# Altium footprint library W25N04KVZEIR.PcbLib: 3 footprints
Each footprint in its own frame and in the unit in brackets; x right, y up, seen from the top. Pads: shape width x height; smd on the part's side, far side on the other; paste and mask are expansions set on the pad; w line width, h text height; cw(c..) or ccw(c..) is an arc to the next point about the centre after c.
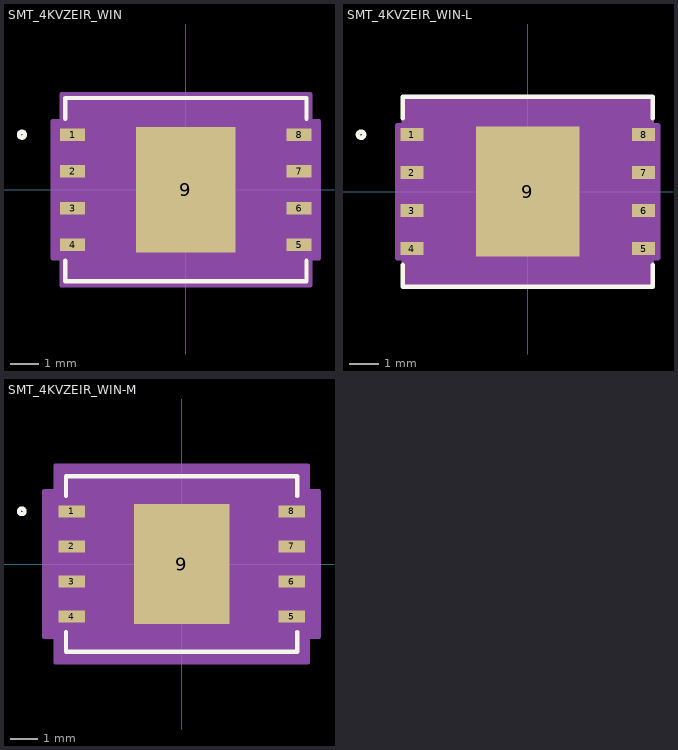
[diagram p0: the footprints below, top view; thin cyan lines are the x and y axes]

## SMT_4KVZEIR_WIN [mil]
pads (9):
  rect 34x17 smd paste+0 mask+0: 1(-154.5,75) 2(-154.5,25) 3(-154.5,-25) 4(-154.5,-75) 5(154.5,-75) 6(154.5,-25) 7(154.5,25) 8(154.5,75)
  rect 136x171 smd paste+0 mask+0: 9(0,0)
Top Overlay:
  circle w6: c-223.5,75 r4
  lines w6: -164.5,-96.6 -164.5,-125 164.5,-125 164.5,-96.6 ; -164.5,96.6 -164.5,125 164.5,125 164.5,96.6
Top Paste:
  region: 64.06,-32.44 3.94,-32.44 3.94,-81.56 64.06,-81.56
  region: 64.06,24.56 3.94,24.56 3.94,-24.56 64.06,-24.56
  region: 64.06,81.56 3.94,81.56 3.94,32.44 64.06,32.44
  region: -3.94,-32.44 -64.06,-32.44 -64.06,-81.56 -3.94,-81.56
  region: -3.94,24.56 -64.06,24.56 -64.06,-24.56 -3.94,-24.56
  region: -3.94,81.56 -64.06,81.56 -64.06,32.44 -3.94,32.44
Mechanical 13:
  circle w0: c-137.5,75 r3
  lines w0: -12,120 ccw(c0,120) 12,120
  lines w1: -159.5,-120 -159.5,120 159.5,120 159.5,-120 -159.5,-120
Mechanical 15:
  region: -169.5,-93.5 -181.5,-93.5 -181.5,93.5 -169.5,93.5 -169.5,130 169.5,130 169.5,93.5 181.5,93.5 181.5,-93.5 169.5,-93.5 169.5,-130 -169.5,-130
  lines w6: -181.5,-93.5 -169.5,-93.5 -169.5,-130 169.5,-130 169.5,-93.5 181.5,-93.5 181.5,93.5 169.5,93.5 169.5,130 -169.5,130 -169.5,93.5 -181.5,93.5 -181.5,-93.5
3D body "SMT_4KVZEIR_WIN.step": height 32.09, standoff 0, extent -159.49,-120 159.49,120

## SMT_4KVZEIR_WIN-L [mil]
pads (9):
  rect 30x17 smd paste+0 mask+0: 1(-152.5,75) 2(-152.5,25) 3(-152.5,-25) 4(-152.5,-75) 5(152.5,-75) 6(152.5,-25) 7(152.5,25) 8(152.5,75)
  rect 136x171 smd paste+0 mask+0: 9(0,0)
Top Overlay:
  circle w6: c-219.5,75 r4
  lines w6: -164.5,-96.6 -164.5,-125 164.5,-125 164.5,-96.6 ; -164.5,96.6 -164.5,125 164.5,125 164.5,96.6
Top Paste:
  region: -3.94,81.56 -64.06,81.56 -64.06,32.44 -3.94,32.44
  region: -3.94,24.56 -64.06,24.56 -64.06,-24.56 -3.94,-24.56
  region: -3.94,-32.44 -64.06,-32.44 -64.06,-81.56 -3.94,-81.56
  region: 64.06,81.56 3.94,81.56 3.94,32.44 64.06,32.44
  region: 64.06,24.56 3.94,24.56 3.94,-24.56 64.06,-24.56
  region: 64.06,-32.44 3.94,-32.44 3.94,-81.56 64.06,-81.56
Mechanical 13:
  circle w0: c-137.5,75 r3
  lines w0: -12,120 ccw(c0,120) 12,120
  lines w1: -159.5,-120 159.5,-120 159.5,120 -159.5,120 -159.5,-120
Mechanical 15:
  region: -163.5,-87.5 -171.5,-87.5 -171.5,87.5 -163.5,87.5 -163.5,124 163.5,124 163.5,87.5 171.5,87.5 171.5,-87.5 163.5,-87.5 163.5,-124 -163.5,-124
  lines w6: -171.5,-87.5 -171.5,87.5 -163.5,87.5 -163.5,124 163.5,124 163.5,87.5 171.5,87.5 171.5,-87.5 163.5,-87.5 163.5,-124 -163.5,-124 -163.5,-87.5 -171.5,-87.5
3D body "SMT_4KVZEIR_WIN.step": height 32.09, standoff 0, extent -159.49,-120 159.49,120

## SMT_4KVZEIR_WIN-M [mil]
pads (9):
  rect 38x17 smd paste+0 mask+0: 1(-156.5,75) 2(-156.5,25) 3(-156.5,-25) 4(-156.5,-75) 5(156.5,-75) 6(156.5,-25) 7(156.5,25) 8(156.5,75)
  rect 136x171 smd paste+0 mask+0: 9(0,0)
Top Overlay:
  circle w6: c-227.5,75 r4
  lines w6: -164.5,-96.6 -164.5,-125 164.5,-125 164.5,-96.6 ; -164.5,96.6 -164.5,125 164.5,125 164.5,96.6
Top Paste:
  region: -3.94,81.56 -64.06,81.56 -64.06,32.44 -3.94,32.44
  region: -3.94,24.56 -64.06,24.56 -64.06,-24.56 -3.94,-24.56
  region: -3.94,-32.44 -64.06,-32.44 -64.06,-81.56 -3.94,-81.56
  region: 64.06,81.56 3.94,81.56 3.94,32.44 64.06,32.44
  region: 64.06,24.56 3.94,24.56 3.94,-24.56 64.06,-24.56
  region: 64.06,-32.44 3.94,-32.44 3.94,-81.56 64.06,-81.56
Mechanical 13:
  circle w0: c-137.5,75 r3
  lines w0: -12,120 ccw(c0,120) 12,120
  lines w1: -159.5,-120 159.5,-120 159.5,120 -159.5,120 -159.5,-120
Mechanical 15:
  region: -179.5,-103.5 -195.5,-103.5 -195.5,103.5 -179.5,103.5 -179.5,140 179.5,140 179.5,103.5 195.5,103.5 195.5,-103.5 179.5,-103.5 179.5,-140 -179.5,-140
  lines w6: -195.5,-103.5 -195.5,103.5 -179.5,103.5 -179.5,140 179.5,140 179.5,103.5 195.5,103.5 195.5,-103.5 179.5,-103.5 179.5,-140 -179.5,-140 -179.5,-103.5 -195.5,-103.5
3D body "SMT_4KVZEIR_WIN.step": height 32.09, standoff 0, extent -159.49,-120 159.49,120